# Altium footprint library switch.PcbLib: 4 footprints
Each footprint in its own frame and in the unit in brackets; x right, y up, seen from the top. Pads: shape width x height; smd on the part's side, far side on the other; paste and mask are expansions set on the pad; w line width, h text height; cw(c..) or ccw(c..) is an arc to the next point about the centre after c.
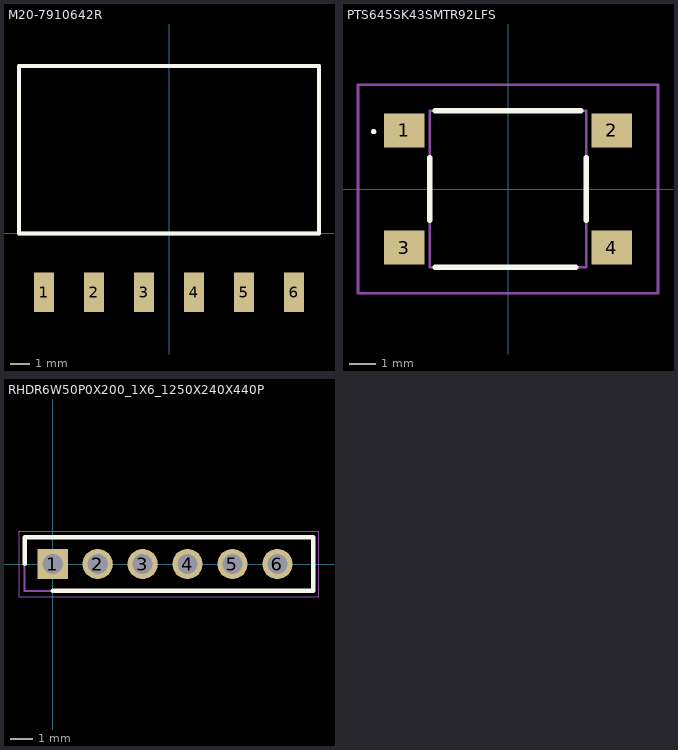
[diagram p0: the footprints below, top view; thin cyan lines are the x and y axes]

## M20-7910642R [mm]
pads (6):
  rect 1.02x2 smd: 1(-6.35,-3) 2(-3.81,-3) 3(-1.27,-3) 4(1.27,-3) 5(3.81,-3) 6(6.35,-3)
Top Overlay:
  lines w0.2: -7.62,0 7.62,0 7.62,8.5 -7.62,8.5 -7.62,0
Mechanical 13:
  lines w0.2: -7.62,0 -7.62,8.5 7.62,8.5 7.62,0 -7.62,0
3D body "M20-7910642R.stp": height 2.5, standoff 0, extent -7.745,-3.598 7.745,8.3

## PCBComponent_1 [mm]

## PTS645SK43SMTR92LFS [mm]
pads (4):
  rect 1.55x1.3 smd: 1(-3.975,2.25) 2(3.975,2.25) 3(-3.975,-2.25) 4(3.975,-2.25)
Top Overlay:
  lines w0.1: -5.2,2.2 cw(c-5.15,2.2) -5.1,2.2 cw(c-5.15,2.2) -5.2,2.2
  lines w0.2: -3,-1.2 -3,1.2 ; -2.8,-3 2.6,-3 ; -2.8,3 2.8,3 ; 3,-1.2 3,1.2
Mechanical 13:
  lines w0.1: -3,-3 -3,3 3,3 3,-3 -3,-3
Mechanical 15:
  lines w0.1: -5.75,-4 -5.75,4 5.75,4 5.75,-4 -5.75,-4
3D body "PTS645SK43SMTR92LFS.stp": height 4.3, standoff -0.06, extent -4.5,-3 4.5,3

## RHDR6W50P0X200_1X6_1250X240X440P [mm]
pads (6):
  rect 1.35x1.35 hole 0.9: 1(0,0)
  round 1.35 hole 0.9: 2(2,0) 3(4,0) 4(6,0) 5(8,0) 6(10,0)
Top Overlay:
  lines w0.2: -1.25,0 -1.25,1.2 11.6,1.2 11.6,-1.2 0,-1.2
Mechanical 13:
  lines w0.1: -1.25,-1.2 11.6,-1.2 11.6,1.2 -1.25,1.2 -1.25,-1.2
Mechanical 15:
  lines w0.05: -1.5,-1.45 11.85,-1.45 11.85,1.45 -1.5,1.45 -1.5,-1.45
3D body "M22-7130642.stp": height 4.4, standoff -2.6, extent -1.25,-1.2 11.25,1.2